# EAGLE library part XR-532AQ (library exar)
PULSE DETECTOR
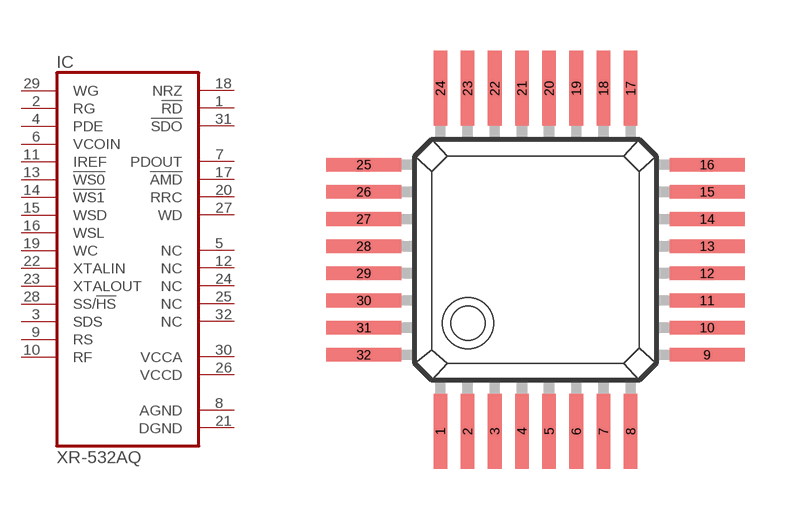
[diagram p86: symbol with the pads of QFP-32; footprint QFP-32]

Designator prefix IC

## XR-532AQ (OC_FARNELL: unknown; OC_NEWARK: unknown)  [QFP-32]
1  !RD
2  RG  in
3  SDS  in
4  PDE  in
5  NC  nc
6  VCOIN  in
7  PDOUT  out
8  AGND  pwr
9  RS  in
10  RF  in
11  IREF  in
12  NC  nc
13  !WS0  in
14  !WS1  in
15  WSD  in
16  WSL  in
17  !AMD  out
18  NRZ
19  WC  in
20  RRC  out
21  DGND  pwr
22  XTALIN  in
23  XTALOUT  in
24  NC  nc
25  NC  nc
26  VCCD  pwr
27  WD  out
28  SS/!HS  in
29  WG  in
30  VCCA  pwr
31  !SDO
32  NC  nc

## Footprint QFP-32 (pad centres in mm)
Quad Flat Package
smd 0.4 x 2.2: 1 -2.8,-5.05; 2 -2,-5.05; 3 -1.2,-5.05; 4 -0.4,-5.05; 5 0.4,-5.05; 6 1.2,-5.05; 7 2,-5.05; 8 2.8,-5.05; 17 2.8,5.05; 18 2,5.05; 19 1.2,5.05; 20 0.4,5.05; 21 -0.4,5.05; 22 -1.2,5.05; 23 -2,5.05; 24 -2.8,5.05
smd 2.2 x 0.4: 9 5.05,-2.8; 10 5.05,-2; 11 5.05,-1.2; 12 5.05,-0.4; 13 5.05,0.4; 14 5.05,1.2; 15 5.05,2; 16 5.05,2.8; 25 -5.05,2.8; 26 -5.05,2; 27 -5.05,1.2; 28 -5.05,0.4; 29 -5.05,-0.4; 30 -5.05,-1.2; 31 -5.05,-2; 32 -5.05,-2.8